# Altium footprint library PcbLib1.PcbLib: 38 footprints (part 3 of 3)
Each footprint in its own frame and in the unit in brackets; x right, y up, seen from the top. Pads: shape width x height; smd on the part's side, far side on the other; paste and mask are expansions set on the pad; w line width, h text height; cw(c..) or ccw(c..) is an arc to the next point about the centre after c.
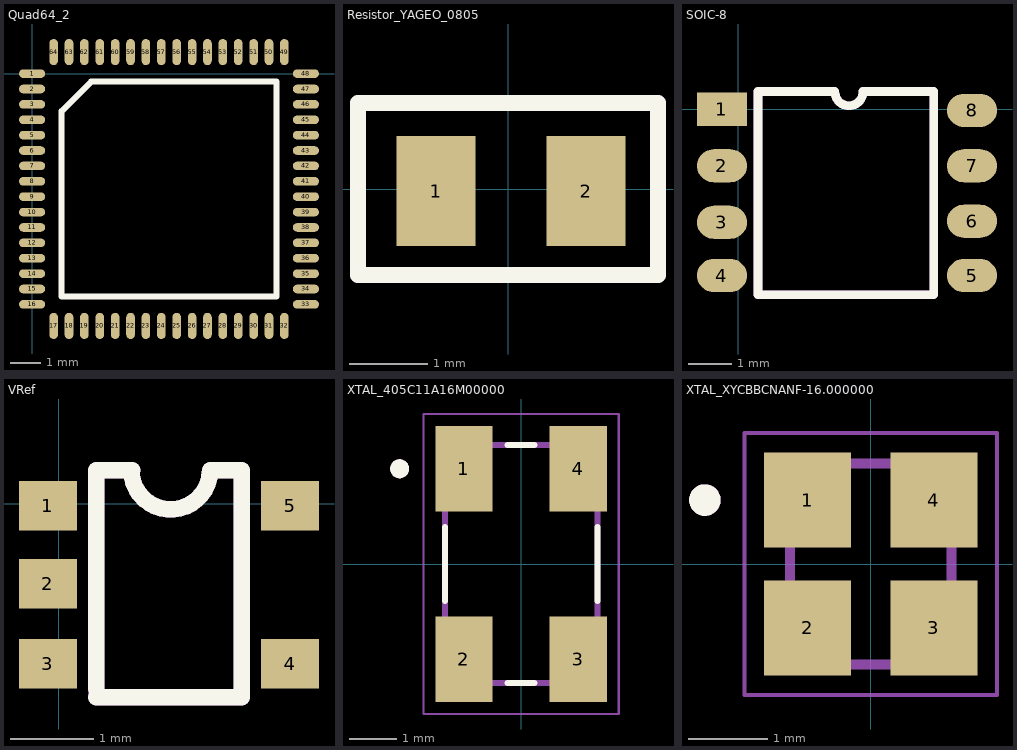
[diagram p2: the footprints below, top view; thin cyan lines are the x and y axes]

## Quad64_2 [mm]
pads (64):
  oval 0.85x0.28 smd: 1(0,0) 2(0,-0.5) 3(0,-1) 4(0,-1.5) 5(0,-2) 6(0,-2.5) 7(0,-3) 8(0,-3.5) 9(0,-4) 10(0,-4.5) 11(0,-5) 12(0,-5.5) 13(0,-6) 14(0,-6.5) 15(0,-7) 16(0,-7.5) 33(8.9,-7.5) 34(8.9,-7) 35(8.9,-6.5) 36(8.9,-6) 37(8.9,-5.5) 38(8.9,-5) 39(8.9,-4.5) 40(8.9,-4) 41(8.9,-3.5) 42(8.9,-3) 43(8.9,-2.5) 44(8.9,-2) 45(8.9,-1.5) 46(8.9,-1) 47(8.9,-0.5) 48(8.9,0)
  oval 0.28x0.85 smd: 17(0.7,-8.2) 18(1.2,-8.2) 19(1.7,-8.2) 20(2.2,-8.2) 21(2.7,-8.2) 22(3.2,-8.2) 23(3.7,-8.2) 24(4.2,-8.2) 25(4.7,-8.2) 26(5.2,-8.2) 27(5.7,-8.2) 28(6.2,-8.2) 29(6.7,-8.2) 30(7.2,-8.2) 31(7.7,-8.2) 32(8.2,-8.2) 49(8.2,0.7) 50(7.7,0.7) 51(7.2,0.7) 52(6.7,0.7) 53(6.2,0.7) 54(5.7,0.7) 55(5.2,0.7) 56(4.7,0.7) 57(4.2,0.7) 58(3.7,0.7) 59(3.2,0.7) 60(2.7,0.7) 61(2.2,0.7) 62(1.7,0.7) 63(1.2,0.7) 64(0.7,0.7)
Top Overlay:
  lines w0.2: 0.96,-7.24 7.94,-7.24 7.94,-0.26 1.92,-0.26 0.96,-1.22 0.96,-7.24
3D body "QFN64_9x9MC_MCH.step": height 0.99, standoff 0, extent -0.046,-8.246 8.946,0.746

## Resistor_YAGEO_0805 [mm]
pads (2):
  rect 1x1.4 smd: 1(-0.914,-0.025) 2(0.991,-0.025)
Top Overlay:
  lines w0.2: -1.905,-1.092 -1.905,1.092 1.905,1.092 1.905,-1.092 -1.905,-1.092
Top Assembly:
  lines w0.2: -1.905,-1.092 -1.905,1.092 1.905,1.092 1.905,-1.092 -1.905,-1.092
  text ".Designator" at -1.399,-0.124 h0.7
3D body "RES_RC0805_2X1P25_YAG.step": height 0.61, standoff 0, extent -1.004,-0.698 1.104,0.648

## SOIC-8 [mm]
pads (8):
  rect 1.15x0.762 smd: 1(-0.375,0)
  oval 1.15x0.762 smd: 2(-0.375,-1.3) 3(-0.375,-2.6) 4(-0.375,-3.825) 5(5.375,-3.825) 6(5.375,-2.575) 7(5.375,-1.3) 8(5.375,-0.025)
Top Overlay:
  lines w0.2: 2.21,0.406 0.455,0.406 0.455,-4.267 4.495,-4.267 4.495,0.406 2.896,0.406 ; 2.22,0.406 ccw(c2.545,0.406) 2.87,0.406
Top Assembly:
  lines w0.2: 2.21,0.406 0.455,0.406 0.455,-4.267 4.496,-4.267 ; 2.22,0.406 ccw(c2.545,0.406) 2.87,0.406 ; 2.896,0.406 4.495,0.406 4.495,-4.267
  text ".Designator" at 2.664,-3.939 h0.7
3D body "LT1990ACS8#PBF.stp": height 1.75, standoff 0, extent -0.482,-4.407 5.512,0.495

## VRef [mm]
pads (5):
  rect 0.7x0.6 smd: 1(-0.127,-0.025) 2(-0.127,-0.965) 3(-0.127,-1.93) 4(2.794,-1.93) 5(2.794,-0.025)
Top Overlay:
  lines w0.2: 0.457,-2.235 0.457,0.406 ; 0.457,0.406 0.889,0.406 0.457,0.406 ; 1.829,0.406 cw(c1.354,0.406) 0.879,0.406 ccw(c1.354,0.406) 1.829,0.406 ; 1.829,0.406 2.21,0.406 ; 1.829,0.406 2.21,0.406 ; 2.21,-2.337 2.21,0.406 ; 2.21,-2.337 2.21,0.406 ; 2.21,-2.337 0.457,-2.337 2.21,-2.337
Top Assembly:
  lines w0.2: 0.879,0.406 ccw(c1.354,0.406) 1.829,0.406 2.21,0.406 2.21,-2.337 0.457,-2.337 0.457,0.406 0.889,0.406
  text ".Designator" at 1.596,-2.237 h0.4
3D body "21-0057F_MXM.step": height 1.45, standoff 0, extent -0.153,-2.464 2.845,0.534

## XTAL_405C11A16M00000 [mm]
height 0.85
pads (4):
  rect 1.2x1.8 smd: 1(-1.2,2) 2(-1.2,-2) 3(1.2,-2) 4(1.2,2)
Top Overlay:
  circle w0.2: c-2.55,2 r0.1
  lines w0.127: -1.6,-0.78 -1.6,0.78 ; -0.28,-2.5 0.28,-2.5 ; -0.28,2.5 0.28,2.5 ; 1.6,-0.78 1.6,0.78
Mechanical 13:
  circle w0.2: c-2.55,2 r0.1
  lines w0.127: -1.6,-2.5 -1.6,2.5 1.6,2.5 1.6,-2.5 -1.6,-2.5
Mechanical 15:
  lines w0.05: -2.05,-3.15 -2.05,3.15 2.05,3.15 2.05,-3.15 -2.05,-3.15
3D body "step_temp.STEP": height 0.85, standoff 0, extent -1.6,-2.5 1.6,2.5

## XTAL_XYCBBCNANF-16.000000 [mm]
height 0.55
pads (4):
  rect 1.1x1.2 smd: 1(-0.8,0.81) 2(-0.8,-0.81) 3(0.8,-0.81) 4(0.8,0.81)
Top Overlay:
  circle w0.2: c-2.1,0.81 r0.1
Mechanical 13:
  circle w0.2: c-2.1,0.81 r0.1
  lines w0.127: -1.025,-1.275 -1.025,1.275 1.025,1.275 1.025,-1.275 -1.025,-1.275
Mechanical 15:
  lines w0.05: -1.6,-1.66 -1.6,1.66 1.6,1.66 1.6,-1.66 -1.6,-1.66